# EAGLE library part LTC2444 (library linear-technology)
24-Bit High Speed 8-/16-Channel ΔΣ ADCs with Selectable Speed/Resolution Source: Data sheet <http://cds.linear.com/docs/Datasheet/2444589fb.pdf>
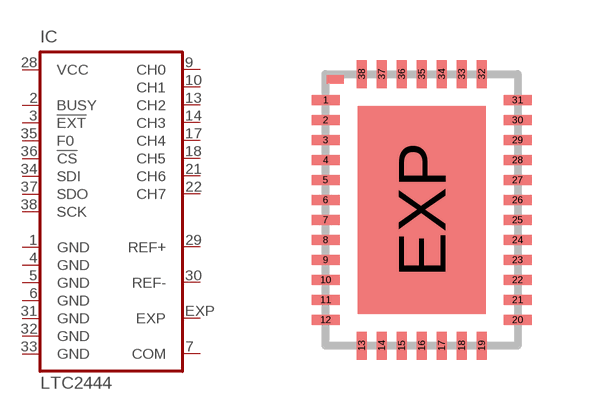
[diagram p34: symbol with the pads of QFN38-5X7; footprint QFN38-5X7]

Designator prefix IC

## LTC2444CUHF, LTC2444IUHF  [QFN38-5X7]
1  GND  pwr
2  BUSY  out
3  !EXT  out
4  GND  pwr
5  GND  pwr
6  GND  pwr
7  COM  pwr
9  CH0  in
10  CH1  in
13  CH2  in
14  CH3  in
17  CH4  in
18  CH5  in
21  CH6  in
22  CH7  in
28  VCC  pwr
29  REF+  in
30  REF-  in
31  GND  pwr
32  GND  pwr
33  GND  pwr
34  SDI  in
35  F0  in
36  !CS  in
37  SDO  hiz
38  SCK
EXP  EXP  pas

## Footprint QFN38-5X7 (pad centres in mm)
UHF Package 38-Lead Plastic QFN (5mm × 7mm) (Reference LTC DWG # 05-08-1701) Source: Data sheet <http://cds.linear.com/docs/Datasheet/2444589fb.pdf>
smd 0.7 x 0.25: 1 -2.4,2.75; 2 -2.4,2.25; 3 -2.4,1.75; 4 -2.4,1.25; 5 -2.4,0.75; 6 -2.4,0.25; 7 -2.4,-0.25; 8 -2.4,-0.75; 9 -2.4,-1.25; 10 -2.4,-1.75; 11 -2.4,-2.25; 12 -2.4,-2.75; 20 2.4,-2.75; 21 2.4,-2.25; 22 2.4,-1.75; 23 2.4,-1.25; 24 2.4,-0.75; 25 2.4,-0.25; 26 2.4,0.25; 27 2.4,0.75; 28 2.4,1.25; 29 2.4,1.75; 30 2.4,2.25; 31 2.4,2.75
smd 0.25 x 0.7: 13 -1.5,-3.4; 14 -1,-3.4; 15 -0.5,-3.4; 16 0,-3.4; 17 0.5,-3.4; 18 1,-3.4; 19 1.5,-3.4; 32 1.5,3.4; 33 1,3.4; 34 0.5,3.4; 35 0,3.4; 36 -0.5,3.4; 37 -1,3.4; 38 -1.5,3.4
smd 3.2 x 5.2: EXP 0,0